# Altium footprint library Transistor.PcbLib: 2 footprints
Each footprint in its own frame and in the unit in brackets; x right, y up, seen from the top. Pads: shape width x height; smd on the part's side, far side on the other; paste and mask are expansions set on the pad; w line width, h text height; cw(c..) or ccw(c..) is an arc to the next point about the centre after c.
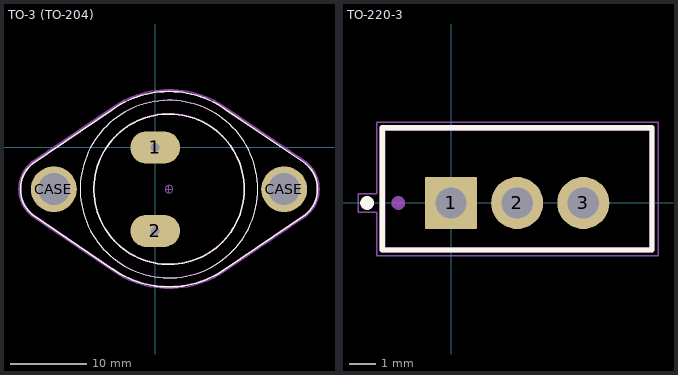
[diagram p0: the footprints below, top view; thin cyan lines are the x and y axes]

## TO-3 (TO-204) [mm] "Transistor Outline 3 (a.k.a. TO-204)"
height 8.92
pads (4):
  oval 6.5x4.2 hole 1.2 mask+0.05: 1(0,0) 2(0,-10.92)
  round 6 hole 4.19 unplated mask+0.05: CASE(-13.26,-5.46) CASE(16.89,-5.46)
Top Overlay:
  circle w0.2: c1.815,-5.46 r9.845
  circle w0.1: c1.815,-5.46 r11.62
  lines w0.2: -16.063,-2.12 ccw(c-13.26,-5.46) -16.063,-8.8 -5.565,-15.92 ; -16.045,-2.11 -5.527,5.025 cw(c1.815,-5.46) 9.157,5.025 19.665,-2.1 ; -5.527,-15.945 ccw(c1.815,-5.46) 9.157,-15.945 ; 9.135,-15.96 19.693,-8.8 ccw(c16.89,-5.46) 19.693,-2.12
Top Component Outline:
  circle w0.2: c1.815,-5.41 r9.845
  circle w0.1: c1.815,-5.41 r11.62
  lines w0.2: -16.063,-2.07 ccw(c-13.26,-5.41) -16.063,-8.75 -5.565,-15.87 ; -16.045,-2.06 -5.527,5.075 cw(c1.815,-5.41) 9.157,5.075 19.665,-2.05 ; -5.527,-15.895 ccw(c1.815,-5.41) 9.157,-15.895 ; 9.135,-15.91 19.693,-8.75 ccw(c16.89,-5.41) 19.693,-2.07
Top Courtyard:
  lines w0.2: -16.191,-8.928 cw(c-13.26,-5.435) -16.191,-1.942 ; -16.19,-1.942 -5.641,5.214 cw(c1.815,-5.435) 9.271,5.214 ; -16.18,-8.94 -5.641,-16.084 ccw(c1.815,-5.435) 9.271,-16.084 ; 9.272,-16.083 19.821,-8.928 ccw(c16.89,-5.435) 19.821,-1.942 9.272,5.211
Top Component Center:
  circle w0.025: c1.815,-5.46 r0.5
  lines w0.025: 1.315,-5.46 1.815,-5.46 ; 1.815,-5.96 1.815,-5.46 ; 1.815,-4.96 1.815,-5.46 ; 2.315,-5.46 1.815,-5.46
Top Designator:
  text "'.Designator'" at -3.069,-5.908 h2
Top Assembly:
  circle w0.254: c16.89,-5.46 r2.211
  circle w0.254: c0,-10.925 r0.729
  circle w0.254: c0,0 r0.725
  circle w0.254: c-13.26,-5.46 r2.22
  circle w0.2: c1.815,-5.46 r9.845
  circle w0.1: c1.815,-5.46 r11.62
  lines w0.2: -16.063,-2.12 ccw(c-13.26,-5.46) -16.063,-8.8 -5.565,-15.92 ; -16.045,-2.11 -5.527,5.025 cw(c1.815,-5.46) 9.157,5.025 19.665,-2.1 ; -5.527,-15.945 ccw(c1.815,-5.46) 9.157,-15.945 ; 9.135,-15.96 19.693,-8.8 ccw(c16.89,-5.46) 19.693,-2.12
  text "'.Designator'" at -3.069,-5.908 h2
3D body "TO-3 (TO-204).STEP": height 8.92, standoff -13.1, extent -17.635,-18.21 21.265,7.29

## TO-220-3 [mm] "Transistor Outline 3 Leads"
height 19.65
pads (3):
  rrect5% 2x2 hole 1.2 mask+0.05: 1(0,0)
  round 2 hole 1.2 mask+0.05: 2(2.54,0) 3(5.08,0)
Top Overlay:
  circle w0.27: c-3.225,0 r0.13
  lines w0.2: -2.64,-1.81 -2.64,2.89 7.72,2.89 7.72,-1.81 -2.64,-1.81
Top Component Outline:
  circle w0.27: c-2.025,0 r0.13
  lines w0.2: -2.64,-1.81 7.72,-1.81 7.72,2.89 -2.64,2.89 -2.64,-1.81
  text "'.Comment'" at 0.324,-1.527 h1
Top Courtyard:
  lines w0.05: -3.575,-0.35 -2.85,-0.35 -2.85,-2.025 7.95,-2.025 7.95,3.1 -2.85,3.1 -2.85,0.35 -3.575,0.35 -3.575,-0.35
Top Component Center:
  circle w0.025: c2.54,0 r0.5
  lines w0.025: 2.04,0 2.54,0 ; 2.54,-0.5 2.54,0 ; 2.54,0.5 2.54,0 ; 3.04,0 2.54,0
Top Designator:
  text "'.Designator'" at -1.117,1.264 h1.5
Top Assembly:
  circle w0.1: c2.55,0 r0.6
  circle w0.1: c5.075,0 r0.6
  circle w0.27: c0,0 r0.13
  lines w0.1: -0.604,-0.608 0.596,-0.608 ; -0.6,-0.604 -0.6,0.596 0.6,0.596 ; 0.604,-0.604 0.604,0.596
  lines w0.2: -2.625,-1.775 -2.6,-1.8 7.7,-1.8 7.7,2.875 -2.625,2.875 -2.625,-1.775
  text "'.Designator'" at -1.117,1.264 h1.5
3D body "TO-220-3.STEP": height 19.65, standoff -9.22, extent -2.54,-1.756 7.62,2.794